# EAGLE library part TA8428 (library okamoto)
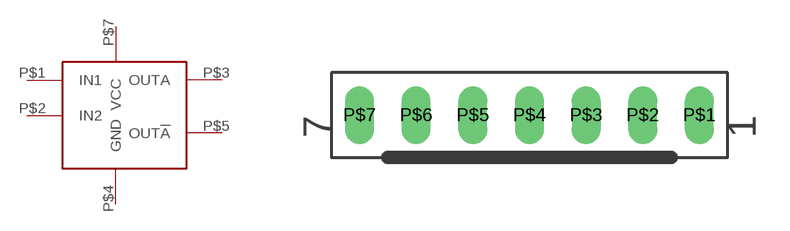
[diagram p4: symbol with the pads of TA8428K(S); footprint TA8428K(S)]

Designator prefix -

## TA8428TA8428K(S)  [TA8428K(S)]
P$1  IN1
P$2  IN2
P$3  OUTA  out
P$4  GND  pwr
P$5  OUT!A  out
P$7  VCC  pwr

## Footprint TA8428K(S) (pad centres in mm)
drill 0.8 long: P$1 7.62,0; P$2 5.08,0; P$3 2.54,0; P$4 0,0; P$5 -2.54,0; P$6 -5.08,0; P$7 -7.62,0